# Altium schematic symbol library Schlib1.SchLib: 1 symbol
Pins are listed as number, name and electrical type; pins without a type are passive.

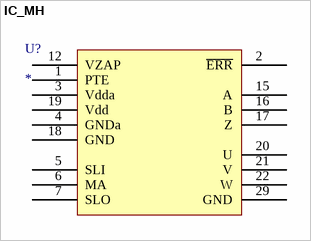
[diagram p0: symbol IC_MH]

## IC_MH
designator U?
pins: 1 PTE, 2 ~{ERR}, 3 Vdda, 4 GNDa, 5 SLI, 6 MA, 7 SLO, 12 VZAP, 15 A, 16 B, 17 Z, 18 GND, 19 Vdd, 20 U, 21 V, 22 W, 29 GND (power)